# Altium footprint library DC-044A.PcbLib: 1 footprints
Each footprint in its own frame and in the unit in brackets; x right, y up, seen from the top. Pads: shape width x height; smd on the part's side, far side on the other; paste and mask are expansions set on the pad; w line width, h text height; cw(c..) or ccw(c..) is an arc to the next point about the centre after c.
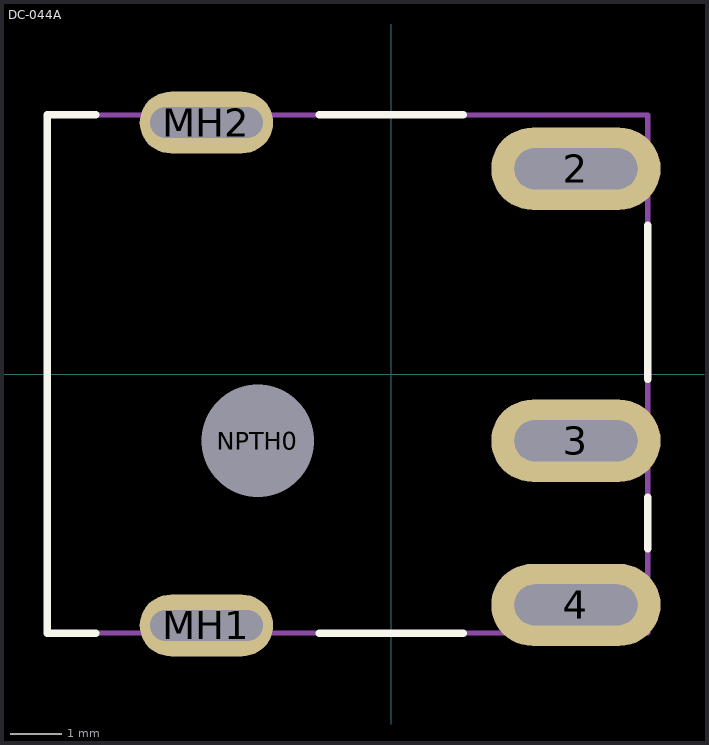
[diagram p0: the footprint, top view; thin cyan lines are the x and y axes]

## DC-044A [mm]
pads (6):
  oval 3.3x1.6 hole 0.8 slot 2.4 at 0 deg: 2(3.6,4) 3(3.6,-1.3) 4(3.6,-4.5)
  oval 2.6x1.2 hole 0.6 slot 2.2 at 0 deg: MH1(-3.6,-4.9) MH2(-3.6,4.9)
  round 1.9 hole 2.2 unplated: NPTH0(-2.6,-1.3)
Top Overlay:
  lines w0.15: -5.759,-5.05 -6.7,-5.05 -6.7,5.05 -5.759,5.05 ; -1.4,-5.05 1.4,-5.05 ; -1.4,5.05 1.4,5.05 ; 5,-3.4 5,-2.4 ; 5,-0.1 5,2.9
Mechanical 13:
  lines w0.1: -6.7,-5.05 5,-5.05 5,5.05 -6.7,5.05 -6.7,-5.05
3D body: height 7.4, standoff -3, extent -6.741,-5.13 4.996,5.13